# EAGLE library part LCD-3.5 (library EE445L)
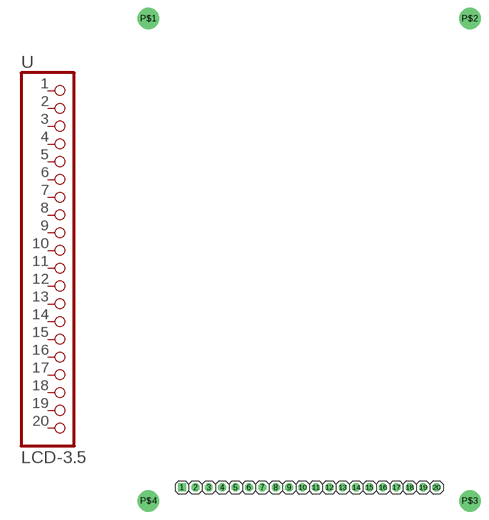
[diagram p47: symbol with the pads of LCD3.5IN; footprint LCD3.5IN]

Designator prefix -

## LCD-3.5  [LCD3.5IN]
1  1  pas
2  2  pas
3  3  pas
4  4  pas
5  5  pas
6  6  pas
7  7  pas
8  8  pas
9  9  pas
10  10  pas
11  11  pas
12  12  pas
13  13  pas
14  14  pas
15  15  pas
16  16  pas
17  17  pas
18  18  pas
19  19  pas
20  20  pas

## Footprint LCD3.5IN (pad centres in mm)
drill 1 square: 1 -24.13,0
drill 1 octagon: 2 -21.59,0; 3 -19.05,0; 4 -16.51,0; 5 -13.97,0; 6 -11.43,0; 7 -8.89,0; 8 -6.35,0; 9 -3.81,0; 10 -1.27,0; 11 1.27,0; 12 3.81,0; 13 6.35,0; 14 8.89,0; 15 11.43,0; 16 13.97,0; 17 16.51,0; 18 19.05,0; 19 21.59,0; 20 24.13,0
drill 3.048 pad 4.064: P$1 -30.48,88.9; P$2 30.48,88.9; P$3 30.48,-2.54; P$4 -30.48,-2.54